# EAGLE library part ICL7107 (library wheat)
ADC, ICL7107
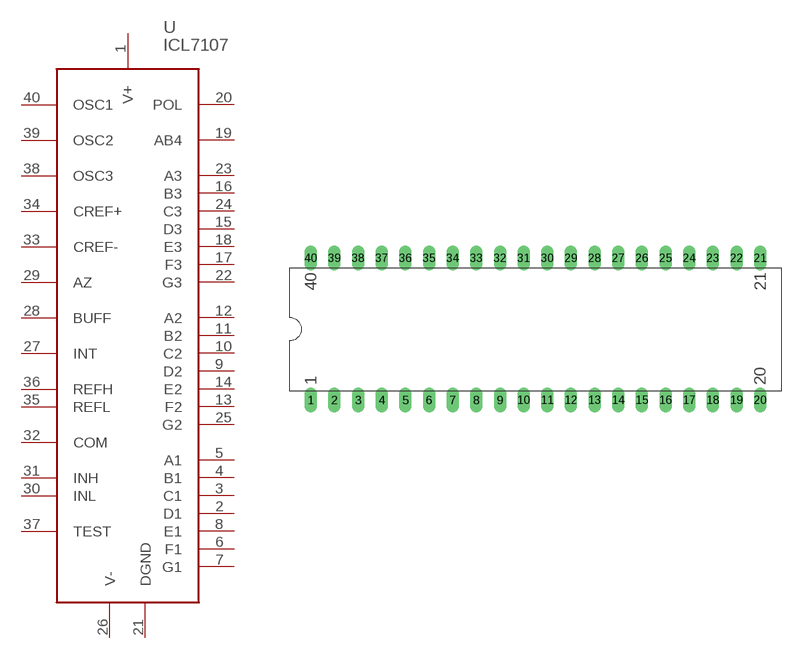
[diagram p113: symbol with the pads of DIP40; footprint DIP40]

Designator prefix U

## ICL7107  [DIP40]
1  V+  pas
2  D1  out
3  C1  out
4  B1  out
5  A1  out
6  F1  out
7  G1  out
8  E1  out
9  D2  out
10  C2  out
11  B2  out
12  A2  out
13  F2  out
14  E2  out
15  D3  out
16  B3  out
17  F3  out
18  E3  out
19  AB4  out
20  POL  out
21  DGND  pas
22  G3  out
23  A3  out
24  C3  out
25  G2  out
26  V-  pas
27  INT  pas
28  BUFF  pas
29  AZ  pas
30  INL  pas
31  INH  pas
32  COM  pas
33  CREF-  pas
34  CREF+  pas
35  REFL  pas
36  REFH  pas
37  TEST  pas
38  OSC3  pas
39  OSC2  pas
40  OSC1  pas

## Footprint DIP40 (pad centres in mm)
DIP 40 0.6"W
drill 0.813 long: 1 0,0; 2 2.54,0; 3 5.08,0; 4 7.62,0; 5 10.16,0; 6 12.7,0; 7 15.24,0; 8 17.78,0; 9 20.32,0; 10 22.86,0; 11 25.4,0; 12 27.94,0; 13 30.48,0; 14 33.02,0; 15 35.56,0; 16 38.1,0; 17 40.64,0; 18 43.18,0; 19 45.72,0; 20 48.26,0; 21 48.26,15.24; 22 45.72,15.24; 23 43.18,15.24; 24 40.64,15.24; 25 38.1,15.24; 26 35.56,15.24; 27 33.02,15.24; 28 30.48,15.24; 29 27.94,15.24; 30 25.4,15.24; 31 22.86,15.24; 32 20.32,15.24; 33 17.78,15.24; 34 15.24,15.24; 35 12.7,15.24; 36 10.16,15.24; 37 7.62,15.24; 38 5.08,15.24; 39 2.54,15.24; 40 0,15.24